# Altium integrated library IC-RF-PN5321A3HN_C106_55_QFN40_.IntLib: 1 symbol
Pins are listed as number, name and electrical type; pins without a type are passive.

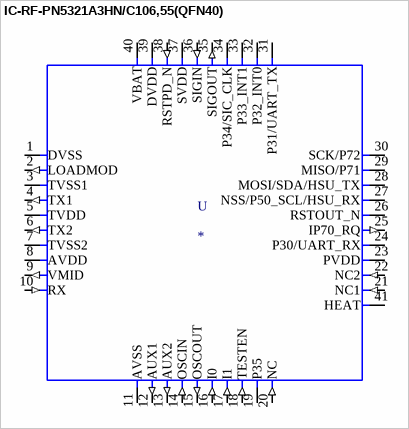
[diagram p0: symbol IC-RF-PN5321A3HN/C106,55(QFN40)]

## IC-RF-PN5321A3HN/C106,55(QFN40)
designator U
RFID Reader/Transponder IC 13.56MHz FeliCa, ISO 14443, MIFARE, NFC IÂ²C, SPI, UART 2.7V ~ 5.5V 40-VFQFN Exposed Pad; MP: PN5321A3HN/C106;55; MF: NXP USA; Availability: Unavailable; SnapEDA_Link: https://www.snapeda.com/parts/PN5321A3HN/C106;55/NXP%20USA%20Inc./view-part/12288/?ref=snap; Price: None; Value: *; Package: HVQFN-40 NXP Semiconductors
footprint QFN40G-0.5-6X6MM
pins: 1 DVSS (power), 2 LOADMOD (out), 3 TVSS1 (power), 4 TX1 (out), 5 TVDD (power), 6 TX2 (out), 7 TVSS2 (power), 8 AVDD (power), 9 VMID (out), 10 RX (in), 11 AVSS (power), 12 AUX1 (out), 13 AUX2 (out), 14 OSCIN (in), 15 OSCOUT (out), 16 I0 (in), 17 I1 (in), 18 TESTEN (in), 19 P35 (io), 20 NC (in), 21 NC1 (in), 22 NC2 (in), 23 PVDD (power), 24 P30/UART_RX (io), 25 IP70_RQ (out), 26 RSTOUT_N (io), 27 NSS/P50_SCL/HSU_RX (io), 28 MOSI/SDA/HSU_TX (io), 29 MISO/P71 (io), 30 SCK/P72 (io), 31 P31/UART_TX (io), 32 P32_INT0 (io), 33 P33_INT1 (io), 34 P34/SIC_CLK (io), 35 SIGOUT (out), 36 SIGIN (in), 37 SVDD (power), 38 RSTPD_N (in), 39 DVDD (power), 40 VBAT (power), 41 HEAT (io)